# Altium schematic symbol library STC16F40K128_CoreBoard.SchLib: 1 symbol
Pins are listed as number, name and electrical type; pins without a type are passive.

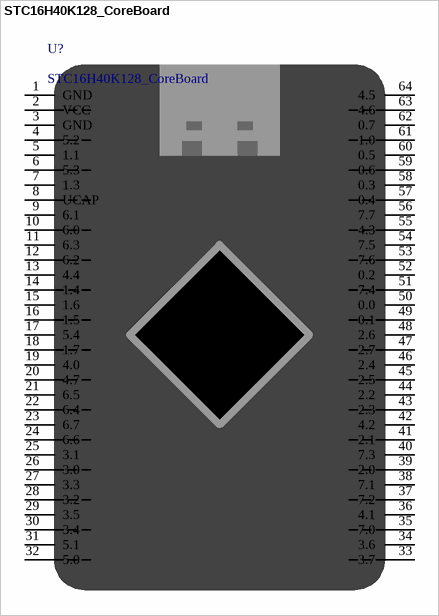
[diagram p0: symbol STC16H40K128_CoreBoard]

## STC16H40K128_CoreBoard
designator U?
逐飞科技 STC16H40K128核心板
footprint STC16H40K128_CoreBoard (Footprint not found)
pins: 1 GND, 2 VCC, 3 GND, 4 5.2, 5 1.1, 6 5.3, 7 1.3, 8 UCAP, 9 6.1, 10 6.0, 11 6.3, 12 6.2, 13 4.4, 14 1.4, 15 1.6, 16 1.5, 17 5.4, 18 1.7, 19 4.0, 20 4.7, 21 6.5, 22 6.4, 23 6.7, 24 6.6, 25 3.1, 26 3.0, 27 3.3, 28 3.2, 29 3.5, 30 3.4, 31 5.1, 32 5.0, 33 3.7, 34 3.6, 35 7.0, 36 4.1, 37 7.2, 38 7.1, 39 2.0, 40 7.3, 41 2.1, 42 4.2, 43 2.3, 44 2.2, 45 2.5, 46 2.4, 47 2.7, 48 2.6, 49 0.1, 50 0.0, 51 7.4, 52 0.2, 53 7.6, 54 7.5, 55 4.3, 56 7.7, 57 0.4, 58 0.3, 59 0.6, 60 0.5, 61 1.0, 62 0.7, 63 4.6, 64 4.5